# EAGLE library part DS4432U+T_R (library DS4432U+T&R)
MAXIM INTEGRATED PRODUCTS - DS4432U+T&R - Digital to Analogue Converter, 7 bit, I2C, Serial, 2.7V to 5.5V, SOP, 8 Pins Source: Datasheet <https://pdfserv.maximintegrated.com/en/ds/DS4432.pdf>
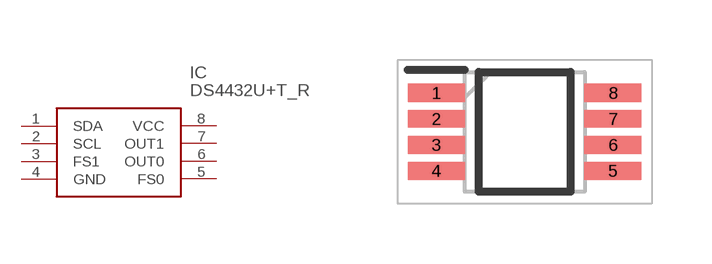
[diagram p0: symbol with the pads of SOP65P490X110-8N; footprint SOP65P490X110-8N]

Designator prefix IC

## DS4432U+T_R (Description: MAXIM INTEGRATED PRODUCTS - DS4432U+T&R - Digital to Analogue Converter, 7 bit, I2C, Serial, 2.7V to 5.5V, SOP, 8 Pins; Height: 1.1mm; Manufacturer_Name: Analog Devices; Manufacturer_Part_Number: DS4432U+T&R; Mouser_Part_Number: 700-DS4432UT&R; Mouser_Price-Stock: https://www.mouser.co.uk/ProductDetail/Maxim-Integrated/DS4432U%2bTR?qs=wTZ%2FFzl837aX6EFuE2M5uA%3D%3D)  [SOP65P490X110-8N]
1  SDA
2  SCL
3  FS1
4  GND
5  FS0
6  OUT0
7  OUT1
8  VCC

## Footprint SOP65P490X110-8N (pad centres in mm)
21-0036
smd 1.425 x 0.45: 1 -2.212,0.975; 2 -2.212,0.325; 3 -2.212,-0.325; 4 -2.212,-0.975; 5 2.212,-0.975; 6 2.212,-0.325; 7 2.212,0.325; 8 2.212,0.975